# Altium schematic symbol library TPA3125D2N.Schlib: 1 symbol
Pins are listed as number, name and electrical type; pins without a type are passive.

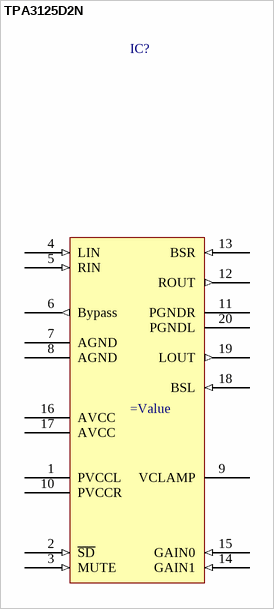
[diagram p0: symbol TPA3125D2N]

## TPA3125D2N
designator IC?
=Description
pins: 1 PVCCL (power), 2 ~{SD} (in), 3 MUTE (in), 4 LIN (in), 5 RIN (in), 6 Bypass (out), 7 AGND (power), 8 AGND (power), 9 VCLAMP, 10 PVCCR (power), 11 PGNDR (power), 12 ROUT (out), 13 BSR (in), 14 GAIN1 (in), 15 GAIN0 (in), 16 AVCC (power), 17 AVCC (power), 18 BSL (in), 19 LOUT (out), 20 PGNDL (power)